# Altium footprint library PCB - CONNECTOR - CUI - CUI PJ-015BH-SMT.PCBLIB: 1 footprints
Each footprint in its own frame and in the unit in brackets; x right, y up, seen from the top. Pads: shape width x height; smd on the part's side, far side on the other; paste and mask are expansions set on the pad; w line width, h text height; cw(c..) or ccw(c..) is an arc to the next point about the centre after c.
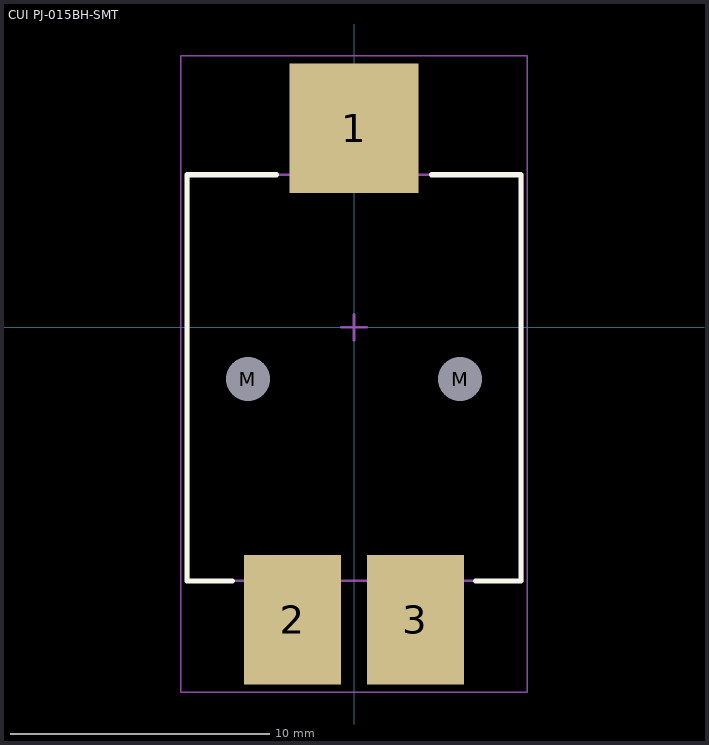
[diagram p0: the footprint, top view; thin cyan lines are the x and y axes]

## CUI PJ-015BH-SMT [mm]
height 14.6
pads (5):
  rect 5x5 smd: 1(0,7.7)
  rect 3.75x5 smd: 2(-2.375,-11.3) 3(2.375,-11.3)
  round 1 hole 1.7 unplated: M(-4.1,-2) M(4.1,-2)
Top Overlay:
  lines w0.2: -4.7,-9.8 -6.45,-9.8 -6.45,5.9 -3,5.9 ; 3,5.9 6.45,5.9 6.45,-9.8 4.7,-9.8
Mechanical 13:
  lines w0.1: -6.4,-9.8 -6.4,5.9 6.5,5.9 6.5,-9.8 -6.4,-9.8
Mechanical 15:
  lines w0.05: -6.7,-14.1 6.7,-14.1 6.7,10.5 -6.7,10.5 -6.7,-14.1
  lines w0.1: -0.5,0 0.5,0 ; 0,-0.5 0,0.5
3D body "CUI PJ-015BH-SMT-TR.step": height 14.5, standoff -1.4, extent -6.5,-12.9 6.5,9.23